# Altium footprint library ESDA25P35-1U1M.PcbLib: 3 footprints
Each footprint in its own frame and in the unit in brackets; x right, y up, seen from the top. Pads: shape width x height; smd on the part's side, far side on the other; paste and mask are expansions set on the pad; w line width, h text height; cw(c..) or ccw(c..) is an arc to the next point about the centre after c.
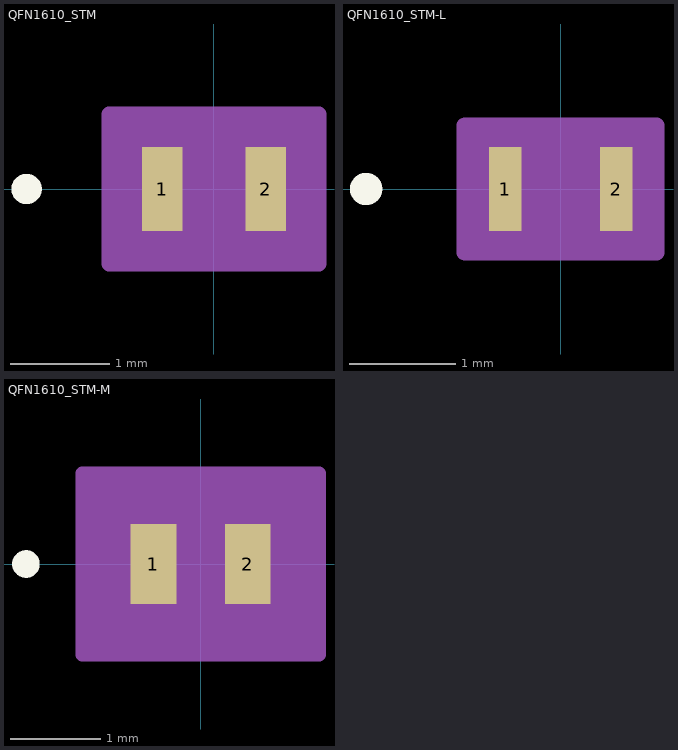
[diagram p0: the footprints below, top view; thin cyan lines are the x and y axes]

## QFN1610_STM [mil]
pads (2):
  rect 16x33 smd paste+0 mask+0: 1(-20.5,0) 2(20.5,0)
Top Overlay:
  circle w6: c-74,0 r3
Mechanical 13:
  circle w1: c0,0 r3
  lines w1: -31.5,-19.5 -31.5,19.5 31.5,19.5 31.5,-19.5 -31.5,-19.5
Mechanical 15:
  region: -41.5,-26.5 -41.5,26.5 -41.5,29.5 41.5,29.5 41.5,26.5 41.5,-26.5 41.5,-29.5 -41.5,-29.5
  lines w6: -41.5,-29.5 41.5,-29.5 41.5,-26.5 41.5,26.5 41.5,29.5 -41.5,29.5 -41.5,26.5 -41.5,-26.5 -41.5,-29.5
3D body "QFN1610_STM.step": height 24.09, standoff 0, extent -31.5,-19.49 31.5,19.49

## QFN1610_STM-L [mil]
pads (2):
  rect 12.06x31.03 smd paste+0 mask+0: 1(-20.5,0) 2(20.5,0)
Top Overlay:
  circle w6: c-72.03,0 r3
  text ".Designator" at -137.5,-25 h50
Mechanical 13:
  circle w1: c0,0 r3
  lines w1: -31.5,-19.5 31.5,-19.5 31.5,19.5 -31.5,19.5 -31.5,-19.5
  text ".Designator" at -137.5,-25 h50
Mechanical 15:
  region: -35.5,-19.52 -35.5,19.52 -35.5,23.5 35.5,23.5 35.5,19.52 35.5,-19.52 35.5,-23.5 -35.5,-23.5
  lines w6: -35.5,-19.52 -35.5,19.52 ; -35.5,-19.52 -35.5,-19.52 ; -35.5,-19.52 -35.5,-23.5 35.5,-23.5 35.5,-19.52 ; -35.5,19.52 -35.5,19.52 ; -35.5,19.52 -35.5,23.5 35.5,23.5 35.5,19.52 ; 35.5,-19.52 35.5,19.52 ; 35.5,-19.52 35.5,-19.52 ; 35.5,19.52 35.5,19.52
3D body "QFN1610_STM.step": height 24.09, standoff 0, extent -31.5,-19.49 31.5,19.49

## QFN1610_STM-M [mil]
pads (2):
  rect 19.94x34.97 smd paste+0 mask+0: 1(-20.5,0) 2(20.5,0)
Top Overlay:
  circle w6: c-75.97,0 r3
  text ".Designator" at -137.5,-25 h50
Mechanical 13:
  circle w1: c0,0 r3
  lines w1: -31.5,-19.5 31.5,-19.5 31.5,19.5 -31.5,19.5 -31.5,-19.5
  text ".Designator" at -137.5,-25 h50
Mechanical 15:
  region: -51.5,-37.48 -51.5,37.48 -51.5,39.5 51.5,39.5 51.5,37.48 51.5,-37.48 51.5,-39.5 -51.5,-39.5
  lines w6: -51.5,-37.48 -51.5,37.48 ; -51.5,-37.48 -51.5,-37.48 ; -51.5,-37.48 -51.5,-39.5 51.5,-39.5 51.5,-37.48 ; -51.5,37.48 -51.5,37.48 ; -51.5,37.48 -51.5,39.5 51.5,39.5 51.5,37.48 ; 51.5,-37.48 51.5,37.48 ; 51.5,-37.48 51.5,-37.48 ; 51.5,37.48 51.5,37.48
3D body "QFN1610_STM.step": height 24.09, standoff 0, extent -31.5,-19.49 31.5,19.49